# EAGLE library part WE-FB_EP10_SCH1 (library Wurth_Power Magnetics_WE-FB)
WE-FB Flyback Transformer suitable for LT3573/ LT3574/ LT3575/ LT3748 Characteristics easy design in solution less external components needed small board space low cost no optocoupler needed! long term reliability voltage control no aging same external parts for different output voltages easy design of custom power supply due to standard circuit and change of transformers and two components for feedback loop Isolation voltage up to 2.5 kV Applications Isolated power design Sensor interfaces Isolated telecom converters Power over Ethernet The "VALUE"shown for symbol and packaging is Ooutput Voltage 1 Output Current 1 <https://katalog.we-online.com/media/images/v2/o35283v209%20Family_we-fb_LT%20Kits_gruppe.jpg> Details see: https://katalog.we-online.com/en/pbs/WE-FB Updated by Yingchun,Shan 2019-08-27 2019 Wurth Elektronik
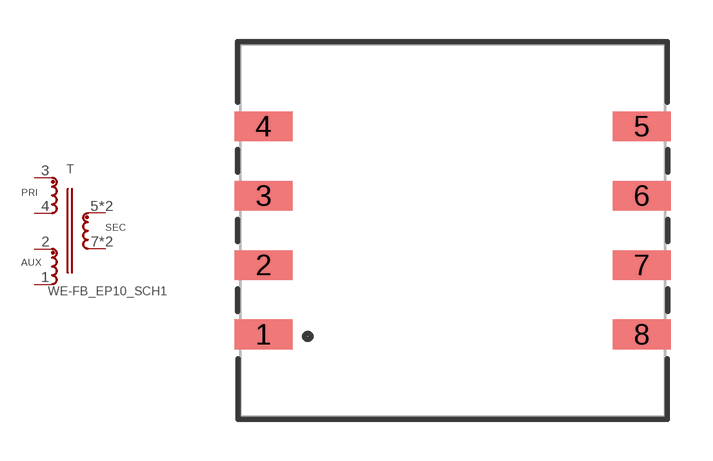
[diagram p9: symbol with the pads of WE-FB_EP10; footprint WE-FB_EP10]

Designator prefix T

## WE-FB_EP10_SCH1_750310471 (DATASHEET-URL: https://katalog.we-online.com/pbs/datasheet/750310471.pdf; ISAT: 2.6A; L: 25uH; LSMIN: 0.43uH; N: 3:1; PART-NUMBER: 750310471; VALUE: 5V 2A; VI: 9-30V(DC); VT: 1500V(AC)), WE-FB_EP10_SCH1_750310559 (DATASHEET-URL: https://katalog.we-online.com/pbs/datasheet/750310559.pdf; ISAT: 2.1A; L: 24uH; LSMIN: 0.5uH; N: 4:1; PART-NUMBER: 750310559; VALUE: 3.3V 1.5A; VI: 12-30V(DC); VT: 1500V(AC)), WE-FB_EP10_SCH1_750310562 (DATASHEET-URL: https://katalog.we-online.com/pbs/datasheet/750310562.pdf; ISAT: 2.8A; L: 25uH; LSMIN: 0.5uH; N: 2:1; PART-NUMBER: 750310562; VALUE: 12V 0.8A; VI: 18-30V(DC); VT: 1500V(AC)), WE-FB_EP10_SCH1_750310563 (DATASHEET-URL: https://katalog.we-online.com/pbs/datasheet/750310563.pdf; ISAT: 2.8A; L: 25uH; LSMIN: 0.5uH; N: 1:1; PART-NUMBER: 750310563; VALUE: 12V 0.8A; VI: 18-30V(DC); VT: 1500V(AC)), WE-FB_EP10_SCH1_750311303 (DATASHEET-URL: https://katalog.we-online.com/pbs/datasheet/750311303.pdf; ISAT: 2.25A; L: 50uH; LSMIN: 0.8uH; N: 5:1; PART-NUMBER: 750311303; VALUE: 5V 3A; VI: 9-30V(DC); VT: 1500V(AC)), WE-FB_EP10_SCH1_750311304 (DATASHEET-URL: https://katalog.we-online.com/pbs/datasheet/750311304.pdf; ISAT: 2.4A; L: 50uH; LSMIN: 0.85uH; N: 4:1; PART-NUMBER: 750311304; VALUE: 5V 3A; VI: 9-30V(DC); VT: 1500V(AC)), WE-FB_EP10_SCH1_750311305 (DATASHEET-URL: https://katalog.we-online.com/pbs/datasheet/750311305.pdf; ISAT: 2.8A; L: 50uH; LSMIN: 1.2uH; N: 3:1; PART-NUMBER: 750311305; VALUE: 12V 1A; VI: 9-30V(DC); VT: 1500V(AC)), WE-FB_EP10_SCH1_750311306 (DATASHEET-URL: https://katalog.we-online.com/pbs/datasheet/750311306.pdf; ISAT: 1.65A; L: 100uH; LSMIN: 1.75uH; N: 3:1; PART-NUMBER: 750311306; VALUE: 12V 1A; VI: 9-30V(DC); VT: 1500V(AC)), WE-FB_EP10_SCH1_750311307 (DATASHEET-URL: https://katalog.we-online.com/pbs/datasheet/750311307.pdf; ISAT: 1.9A; L: 100uH; LSMIN: 2uH; N: 2:1; PART-NUMBER: 750311307; VALUE: 24V 0.5A; VI: 9-30V(DC); VT: 1500V(AC)), WE-FB_EP10_SCH1_750311308 (DATASHEET-URL: https://katalog.we-online.com/pbs/datasheet/750311308.pdf; ISAT: 2.1A; L: 100uH; LSMIN: 2.1uH; N: 1:1; PART-NUMBER: 750311308; VALUE: 24V 0.5A; VI: 9-30V(DC); VT: 1500V(AC)), WE-FB_EP10_SCH1_750311675 (DATASHEET-URL: https://katalog.we-online.com/pbs/datasheet/750311675.pdf; ISAT: 2.5A; L: 25uH; LSMIN: 0.13uH; N: 3:1; PART-NUMBER: 750311675; VALUE: 5V 2A; VI: 9-30V(DC); VT: 1500V(AC))  [WE-FB_EP10]
1  4  pas
2  3  pas
3  1  pas
4  2  pas
5  6  pas
6  6  pas
7  5  pas
8  5  pas

## Footprint WE-FB_EP10 (pad centres in mm)
WE-FB Flyback Transformer suitable for LT3573/ LT3574/ LT3575/ LT3748 Size: EP10 SMD 6Pin
smd 2.08 x 1.07: 1 -6.78,-3.735; 2 -6.78,-1.245; 3 -6.78,1.245; 4 -6.78,3.735; 5 6.78,3.735; 6 6.78,1.245; 7 6.78,-1.245; 8 6.78,-3.735